# EAGLE library part 25LC1024X-X/P (library 3DPOV)
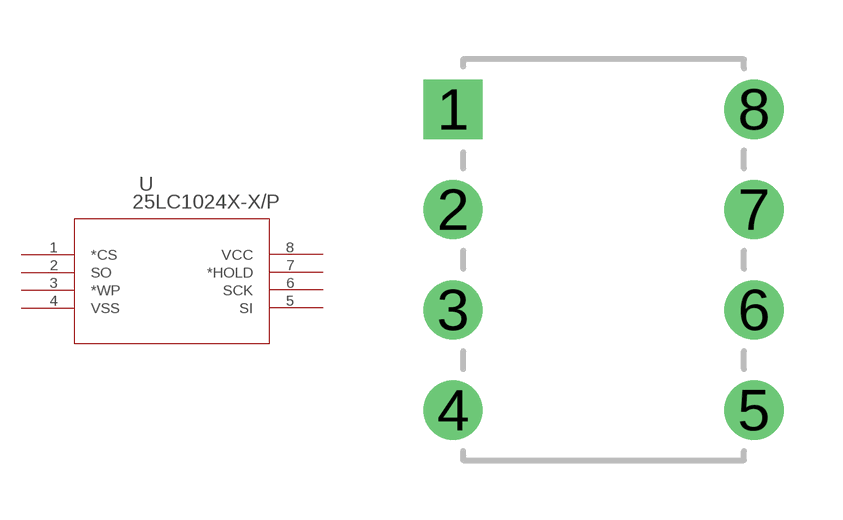
[diagram p3: symbol with the pads of PDIP8_300MC; footprint PDIP8_300MC]

Designator prefix -

## 25LC1024X-X/P  [PDIP8_300MC]
1  *CS  pas
2  SO  pas
3  *WP  pas
4  VSS  pas
5  SI  pas
6  SCK  pas
7  *HOLD  pas
8  VCC  pas

## Footprint PDIP8_300MC (pad centres in mm)
drill 0.991 square: 1 -7.62,7.62
drill 0.991: 2 -7.62,5.08; 3 -7.62,2.54; 4 -7.62,0; 5 0,0; 6 0,2.54; 7 0,5.08; 8 0,7.62